# Altium integrated library NSC LDO.IntLib: 1202 symbols (part 25 of 27)
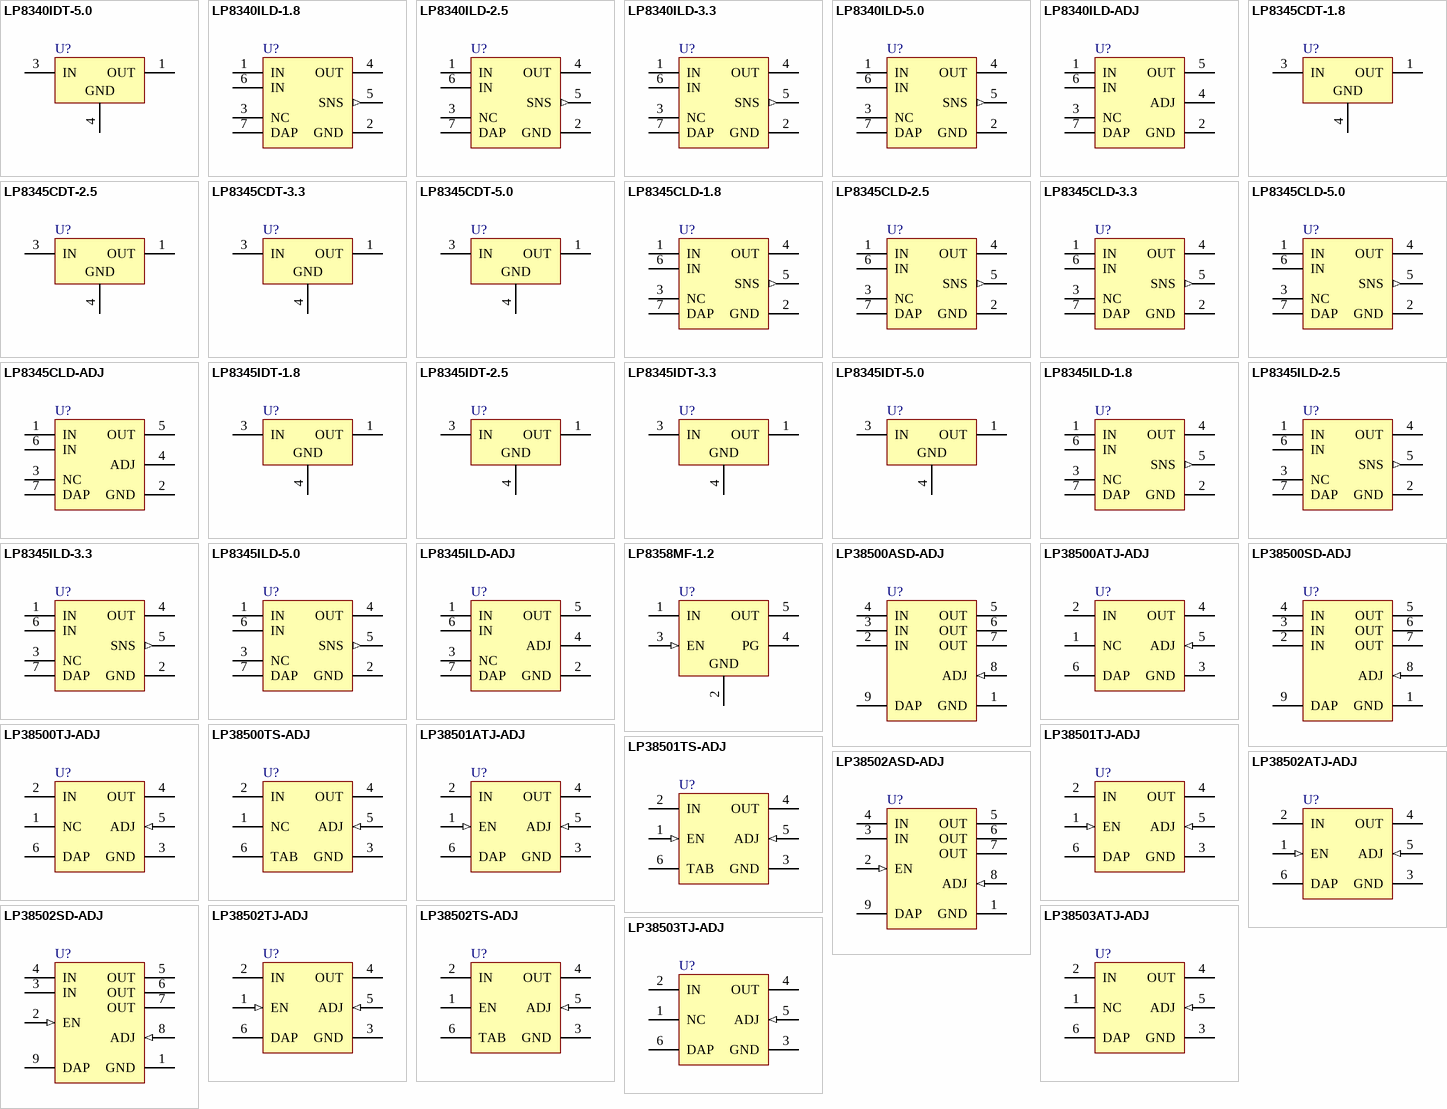
[diagram p54: symbols LP8340IDT-5.0 to LP38503TJ-ADJ]

## LP8340ILD-ADJ
designator U?
Low Dropout, Low IQ, 1.0A CMOS Linear Regulator; PartNumber: LP8340ILD-ADJ; Manufacturer: National Semiconductor; CompType: LDO IC; PackageTopMarking: ZXYTT*L078B; Published: 4-Dec-2008; DatasheetVersion: May-2005; PackageVersion: revA, Jul-2001; PackageReference: LDE06A; Publisher: Altium Limited; PackageDescription: LLP, Plastic, Dual, 2.92 x 3.29 x 0.75mm Body, 6 Lead, 0.95mm Pitch, SOT23 Land; RoHS: Y; PinCount: 6; DigiKeyPartNumber: LP8340ILD-ADJ-ND; ComponentLink1Description: LP8340 Datasheet; ComponentLink1URL: http://www.national.com/ds/LP/LP8340.pdf; ComponentLink2Description: LP8340 Web Page; ComponentLink2URL: http://www.national.com/pf/LP/LP8340.html; ComponentLink3Description: LDE06A Package Page; ComponentLink3URL: http://www.national.com/packaging/folders/lde06a.html
footprint LDE06A (PSON, 6-Leads, Body 2.92x3.29 mm, Pitch 0.95mm, NSC Recommended)
pins: 1 IN (power), 2 GND (power), 3 NC, 4 ADJ, 5 OUT (power), 6 IN (power), 7 DAP (power)

## LP8345CDT-1.8
designator U?
Low Dropout, Low IQ, 500mA CMOS Linear Regulator; PartNumber: LP8345CDT-1.8; Manufacturer: National Semiconductor; CompType: LDO IC; PackageTopMarking: NSUZXYTT*LP8345*CDT-1.8; Published: 4-Dec-2008; DatasheetVersion: May-2005; PackageVersion: revC, Apr-2003; PackageReference: TD03B; Publisher: Altium Limited; PackageDescription: TO252, Molded, Jedec, 6.8 x 6.10 x 2.30mm Body, 3 Lead, 2.28mm Pitch, Surface Mount; RoHS: Y; PinCount: 3; DigiKeyPartNumber: LP8345CDT-1.8-ND; Code_JEDEC: TO-252-AA; ComponentLink1Description: LP8345 Datasheet; ComponentLink1URL: http://www.national.com/ds/LP/LP8345.pdf; ComponentLink2Description: LP8345 Web Page; ComponentLink2URL: http://www.national.com/pf/LP/LP8345.html; ComponentLink3Description: TD03B Package Page; ComponentLink3URL: http://www.national.com/packaging/folders/td03b.html
footprint TD03B_N (D-PAK, 4-Leads, Body 6.1x6.6mm, Pitch 2.29mm, Lead Span 9.7mm, IPC Medium Density)
footprint TD03B_L (D-PAK, 4-Leads, Body 6.1x6.6mm, Pitch 2.29mm, Lead Span 9.7mm, IPC High Density)
footprint TD03B_M (D-PAK, 4-Leads, Body 6.1x6.6mm, Pitch 2.29mm, Lead Span 9.7mm, IPC Low Density)
pins: 1 OUT (power), 3 IN (power), 4 GND (power)

## LP8345CDT-2.5
designator U?
Low Dropout, Low IQ, 500mA CMOS Linear Regulator; PartNumber: LP8345CDT-2.5; Manufacturer: National Semiconductor; CompType: LDO IC; PackageTopMarking: NSUZXYTT*LP8345*CDT-2.5; Published: 4-Dec-2008; DatasheetVersion: May-2005; PackageVersion: revC, Apr-2003; PackageReference: TD03B; Publisher: Altium Limited; PackageDescription: TO252, Molded, Jedec, 6.8 x 6.10 x 2.30mm Body, 3 Lead, 2.28mm Pitch, Surface Mount; RoHS: Y; PinCount: 3; DigiKeyPartNumber: LP8345CDT-2.5-ND; Code_JEDEC: TO-252-AA; ComponentLink1Description: LP8345 Datasheet; ComponentLink1URL: http://www.national.com/ds/LP/LP8345.pdf; ComponentLink2Description: LP8345 Web Page; ComponentLink2URL: http://www.national.com/pf/LP/LP8345.html; ComponentLink3Description: TD03B Package Page; ComponentLink3URL: http://www.national.com/packaging/folders/td03b.html
footprint TD03B_N (D-PAK, 4-Leads, Body 6.1x6.6mm, Pitch 2.29mm, Lead Span 9.7mm, IPC Medium Density)
footprint TD03B_L (D-PAK, 4-Leads, Body 6.1x6.6mm, Pitch 2.29mm, Lead Span 9.7mm, IPC High Density)
footprint TD03B_M (D-PAK, 4-Leads, Body 6.1x6.6mm, Pitch 2.29mm, Lead Span 9.7mm, IPC Low Density)
pins: 1 OUT (power), 3 IN (power), 4 GND (power)

## LP8345CDT-3.3
designator U?
Low Dropout, Low IQ, 500mA CMOS Linear Regulator; PartNumber: LP8345CDT-3.3; Manufacturer: National Semiconductor; CompType: LDO IC; PackageTopMarking: NSUZXYTT*LP8345*CDT-3.3; Published: 4-Dec-2008; DatasheetVersion: May-2005; PackageVersion: revC, Apr-2003; PackageReference: TD03B; Publisher: Altium Limited; PackageDescription: TO252, Molded, Jedec, 6.8 x 6.10 x 2.30mm Body, 3 Lead, 2.28mm Pitch, Surface Mount; RoHS: O; PinCount: 3; DigiKeyPartNumber: LP8345CDT-3.3-ND; Code_JEDEC: TO-252-AA; ComponentLink1Description: LP8345 Datasheet; ComponentLink1URL: http://www.national.com/ds/LP/LP8345.pdf; ComponentLink2Description: LP8345 Web Page; ComponentLink2URL: http://www.national.com/pf/LP/LP8345.html; ComponentLink3Description: TD03B Package Page; ComponentLink3URL: http://www.national.com/packaging/folders/td03b.html
footprint TD03B_N (D-PAK, 4-Leads, Body 6.1x6.6mm, Pitch 2.29mm, Lead Span 9.7mm, IPC Medium Density)
footprint TD03B_L (D-PAK, 4-Leads, Body 6.1x6.6mm, Pitch 2.29mm, Lead Span 9.7mm, IPC High Density)
footprint TD03B_M (D-PAK, 4-Leads, Body 6.1x6.6mm, Pitch 2.29mm, Lead Span 9.7mm, IPC Low Density)
pins: 1 OUT (power), 3 IN (power), 4 GND (power)

## LP8345CDT-5.0
designator U?
Low Dropout, Low IQ, 500mA CMOS Linear Regulator; PartNumber: LP8345CDT-5.0; Manufacturer: National Semiconductor; CompType: LDO IC; PackageTopMarking: NSUZXYTT*LP8345*CDT-5.0; Published: 4-Dec-2008; DatasheetVersion: May-2005; PackageVersion: revC, Apr-2003; PackageReference: TD03B; Publisher: Altium Limited; PackageDescription: TO252, Molded, Jedec, 6.8 x 6.10 x 2.30mm Body, 3 Lead, 2.28mm Pitch, Surface Mount; RoHS: O; PinCount: 3; DigiKeyPartNumber: LP8345CDT-5.0-ND; Code_JEDEC: TO-252-AA; ComponentLink1Description: LP8345 Datasheet; ComponentLink1URL: http://www.national.com/ds/LP/LP8345.pdf; ComponentLink2Description: LP8345 Web Page; ComponentLink2URL: http://www.national.com/pf/LP/LP8345.html; ComponentLink3Description: TD03B Package Page; ComponentLink3URL: http://www.national.com/packaging/folders/td03b.html
footprint TD03B_N (D-PAK, 4-Leads, Body 6.1x6.6mm, Pitch 2.29mm, Lead Span 9.7mm, IPC Medium Density)
footprint TD03B_L (D-PAK, 4-Leads, Body 6.1x6.6mm, Pitch 2.29mm, Lead Span 9.7mm, IPC High Density)
footprint TD03B_M (D-PAK, 4-Leads, Body 6.1x6.6mm, Pitch 2.29mm, Lead Span 9.7mm, IPC Low Density)
pins: 1 OUT (power), 3 IN (power), 4 GND (power)

## LP8345CLD-1.8
designator U?
Low Dropout, Low IQ, 500mA CMOS Linear Regulator; PartNumber: LP8345CLD-1.8; Manufacturer: National Semiconductor; CompType: LDO IC; PackageTopMarking: ZXYTT*L046B; Published: 4-Dec-2008; DatasheetVersion: May-2005; PackageVersion: revA, Jul-2001; PackageReference: LDE06A; Publisher: Altium Limited; PackageDescription: LLP, Plastic, Dual, 2.92 x 3.29 x 0.75mm Body, 6 Lead, 0.95mm Pitch, SOT23 Land; RoHS: Y; PinCount: 6; DigiKeyPartNumber: LP8345CLD-1.8CT-ND; ComponentLink1Description: LP8345 Datasheet; ComponentLink1URL: http://www.national.com/ds/LP/LP8345.pdf; ComponentLink2Description: LP8345 Web Page; ComponentLink2URL: http://www.national.com/pf/LP/LP8345.html; ComponentLink3Description: LDE06A Package Page; ComponentLink3URL: http://www.national.com/packaging/folders/lde06a.html
footprint LDE06A (PSON, 6-Leads, Body 2.92x3.29 mm, Pitch 0.95mm, NSC Recommended)
pins: 1 IN (power), 2 GND (power), 3 NC, 4 OUT (power), 5 SNS (out), 6 IN (power), 7 DAP (power)

## LP8345CLD-2.5
designator U?
Low Dropout, Low IQ, 500mA CMOS Linear Regulator; PartNumber: LP8345CLD-2.5; Manufacturer: National Semiconductor; CompType: LDO IC; PackageTopMarking: ZXYTT*L047B; Published: 4-Dec-2008; DatasheetVersion: May-2005; PackageVersion: revA, Jul-2001; PackageReference: LDE06A; Publisher: Altium Limited; PackageDescription: LLP, Plastic, Dual, 2.92 x 3.29 x 0.75mm Body, 6 Lead, 0.95mm Pitch, SOT23 Land; RoHS: Y; PinCount: 6; DigiKeyPartNumber: LP8345CLD-2.5CT-ND; ComponentLink1Description: LP8345 Datasheet; ComponentLink1URL: http://www.national.com/ds/LP/LP8345.pdf; ComponentLink2Description: LP8345 Web Page; ComponentLink2URL: http://www.national.com/pf/LP/LP8345.html; ComponentLink3Description: LDE06A Package Page; ComponentLink3URL: http://www.national.com/packaging/folders/lde06a.html
footprint LDE06A (PSON, 6-Leads, Body 2.92x3.29 mm, Pitch 0.95mm, NSC Recommended)
pins: 1 IN (power), 2 GND (power), 3 NC, 4 OUT (power), 5 SNS (out), 6 IN (power), 7 DAP (power)

## LP8345CLD-3.3
designator U?
Low Dropout, Low IQ, 500mA CMOS Linear Regulator; PartNumber: LP8345CLD-3.3; Manufacturer: National Semiconductor; CompType: LDO IC; PackageTopMarking: ZXYTT*L048B; Published: 4-Dec-2008; DatasheetVersion: May-2005; PackageVersion: revA, Jul-2001; PackageReference: LDE06A; Publisher: Altium Limited; PackageDescription: LLP, Plastic, Dual, 2.92 x 3.29 x 0.75mm Body, 6 Lead, 0.95mm Pitch, SOT23 Land; RoHS: O; PinCount: 6; DigiKeyPartNumber: LP8345CLD-3.3CT-ND; ComponentLink1Description: LP8345 Datasheet; ComponentLink1URL: http://www.national.com/ds/LP/LP8345.pdf; ComponentLink2Description: LP8345 Web Page; ComponentLink2URL: http://www.national.com/pf/LP/LP8345.html; ComponentLink3Description: LDE06A Package Page; ComponentLink3URL: http://www.national.com/packaging/folders/lde06a.html
footprint LDE06A (PSON, 6-Leads, Body 2.92x3.29 mm, Pitch 0.95mm, NSC Recommended)
pins: 1 IN (power), 2 GND (power), 3 NC, 4 OUT (power), 5 SNS (out), 6 IN (power), 7 DAP (power)

## LP8345CLD-5.0
designator U?
Low Dropout, Low IQ, 500mA CMOS Linear Regulator; PartNumber: LP8345CLD-5.0; Manufacturer: National Semiconductor; CompType: LDO IC; PackageTopMarking: ZXYTT*L049B; Published: 4-Dec-2008; DatasheetVersion: May-2005; PackageVersion: revA, Jul-2001; PackageReference: LDE06A; Publisher: Altium Limited; PackageDescription: LLP, Plastic, Dual, 2.92 x 3.29 x 0.75mm Body, 6 Lead, 0.95mm Pitch, SOT23 Land; RoHS: Y; PinCount: 6; DigiKeyPartNumber: LP8345CLD-5.0CT-ND; ComponentLink1Description: LP8345 Datasheet; ComponentLink1URL: http://www.national.com/ds/LP/LP8345.pdf; ComponentLink2Description: LP8345 Web Page; ComponentLink2URL: http://www.national.com/pf/LP/LP8345.html; ComponentLink3Description: LDE06A Package Page; ComponentLink3URL: http://www.national.com/packaging/folders/lde06a.html
footprint LDE06A (PSON, 6-Leads, Body 2.92x3.29 mm, Pitch 0.95mm, NSC Recommended)
pins: 1 IN (power), 2 GND (power), 3 NC, 4 OUT (power), 5 SNS (out), 6 IN (power), 7 DAP (power)

## LP8345CLD-ADJ
designator U?
Low Dropout, Low IQ, 500mA CMOS Linear Regulator; PartNumber: LP8345CLD-ADJ; Manufacturer: National Semiconductor; CompType: LDO IC; PackageTopMarking: ZXYTT*L045B; Published: 4-Dec-2008; DatasheetVersion: May-2005; PackageVersion: revA, Jul-2001; PackageReference: LDE06A; Publisher: Altium Limited; PackageDescription: LLP, Plastic, Dual, 2.92 x 3.29 x 0.75mm Body, 6 Lead, 0.95mm Pitch, SOT23 Land; RoHS: Y; PinCount: 6; DigiKeyPartNumber: LP8345CLD-ADJCT-ND; ComponentLink1Description: LP8345 Datasheet; ComponentLink1URL: http://www.national.com/ds/LP/LP8345.pdf; ComponentLink2Description: LP8345 Web Page; ComponentLink2URL: http://www.national.com/pf/LP/LP8345.html; ComponentLink3Description: LDE06A Package Page; ComponentLink3URL: http://www.national.com/packaging/folders/lde06a.html
footprint LDE06A (PSON, 6-Leads, Body 2.92x3.29 mm, Pitch 0.95mm, NSC Recommended)
pins: 1 IN (power), 2 GND (power), 3 NC, 4 ADJ, 5 OUT (power), 6 IN (power), 7 DAP (power)

## LP8345IDT-1.8
designator U?
Low Dropout, Low IQ, 500mA CMOS Linear Regulator; PartNumber: LP8345IDT-1.8; Manufacturer: National Semiconductor; CompType: LDO IC; PackageTopMarking: NSUZXYTT*LP8345*IDT-1.8; Published: 4-Dec-2008; DatasheetVersion: May-2005; PackageVersion: revC, Apr-2003; PackageReference: TD03B; Publisher: Altium Limited; PackageDescription: TO252, Molded, Jedec, 6.8 x 6.10 x 2.30mm Body, 3 Lead, 2.28mm Pitch, Surface Mount; RoHS: Y; PinCount: 3; DigiKeyPartNumber: LP8345IDT-1.8-ND; Code_JEDEC: TO-252-AA; ComponentLink1Description: LP8345 Datasheet; ComponentLink1URL: http://www.national.com/ds/LP/LP8345.pdf; ComponentLink2Description: LP8345 Web Page; ComponentLink2URL: http://www.national.com/pf/LP/LP8345.html; ComponentLink3Description: TD03B Package Page; ComponentLink3URL: http://www.national.com/packaging/folders/td03b.html
footprint TD03B_N (D-PAK, 4-Leads, Body 6.1x6.6mm, Pitch 2.29mm, Lead Span 9.7mm, IPC Medium Density)
footprint TD03B_L (D-PAK, 4-Leads, Body 6.1x6.6mm, Pitch 2.29mm, Lead Span 9.7mm, IPC High Density)
footprint TD03B_M (D-PAK, 4-Leads, Body 6.1x6.6mm, Pitch 2.29mm, Lead Span 9.7mm, IPC Low Density)
pins: 1 OUT (power), 3 IN (power), 4 GND (power)

## LP8345IDT-2.5
designator U?
Low Dropout, Low IQ, 500mA CMOS Linear Regulator; PartNumber: LP8345IDT-2.5; Manufacturer: National Semiconductor; CompType: LDO IC; PackageTopMarking: NSUZXYTT*LP8345*IDT-2.5; Published: 4-Dec-2008; DatasheetVersion: May-2005; PackageVersion: revC, Apr-2003; PackageReference: TD03B; Publisher: Altium Limited; PackageDescription: TO252, Molded, Jedec, 6.8 x 6.10 x 2.30mm Body, 3 Lead, 2.28mm Pitch, Surface Mount; RoHS: O; PinCount: 3; DigiKeyPartNumber: LP8345IDT-2.5-ND; Code_JEDEC: TO-252-AA; ComponentLink1Description: LP8345 Datasheet; ComponentLink1URL: http://www.national.com/ds/LP/LP8345.pdf; ComponentLink2Description: LP8345 Web Page; ComponentLink2URL: http://www.national.com/pf/LP/LP8345.html; ComponentLink3Description: TD03B Package Page; ComponentLink3URL: http://www.national.com/packaging/folders/td03b.html
footprint TD03B_N (D-PAK, 4-Leads, Body 6.1x6.6mm, Pitch 2.29mm, Lead Span 9.7mm, IPC Medium Density)
footprint TD03B_L (D-PAK, 4-Leads, Body 6.1x6.6mm, Pitch 2.29mm, Lead Span 9.7mm, IPC High Density)
footprint TD03B_M (D-PAK, 4-Leads, Body 6.1x6.6mm, Pitch 2.29mm, Lead Span 9.7mm, IPC Low Density)
pins: 1 OUT (power), 3 IN (power), 4 GND (power)

## LP8345IDT-3.3
designator U?
Low Dropout, Low IQ, 500mA CMOS Linear Regulator; PartNumber: LP8345IDT-3.3; Manufacturer: National Semiconductor; CompType: LDO IC; PackageTopMarking: NSUZXYTT*LP8345*IDT-3.3; Published: 4-Dec-2008; DatasheetVersion: May-2005; PackageVersion: revC, Apr-2003; PackageReference: TD03B; Publisher: Altium Limited; PackageDescription: TO252, Molded, Jedec, 6.8 x 6.10 x 2.30mm Body, 3 Lead, 2.28mm Pitch, Surface Mount; RoHS: Y; PinCount: 3; DigiKeyPartNumber: LP8345IDT-3.3-ND; Code_JEDEC: TO-252-AA; ComponentLink1Description: LP8345 Datasheet; ComponentLink1URL: http://www.national.com/ds/LP/LP8345.pdf; ComponentLink2Description: LP8345 Web Page; ComponentLink2URL: http://www.national.com/pf/LP/LP8345.html; ComponentLink3Description: TD03B Package Page; ComponentLink3URL: http://www.national.com/packaging/folders/td03b.html
footprint TD03B_N (D-PAK, 4-Leads, Body 6.1x6.6mm, Pitch 2.29mm, Lead Span 9.7mm, IPC Medium Density)
footprint TD03B_L (D-PAK, 4-Leads, Body 6.1x6.6mm, Pitch 2.29mm, Lead Span 9.7mm, IPC High Density)
footprint TD03B_M (D-PAK, 4-Leads, Body 6.1x6.6mm, Pitch 2.29mm, Lead Span 9.7mm, IPC Low Density)
pins: 1 OUT (power), 3 IN (power), 4 GND (power)

## LP8345IDT-5.0
designator U?
Low Dropout, Low IQ, 500mA CMOS Linear Regulator; PartNumber: LP8345IDT-5.0; Manufacturer: National Semiconductor; CompType: LDO IC; PackageTopMarking: NSUZXYTT*LP8345*IDT-5.0; Published: 4-Dec-2008; DatasheetVersion: May-2005; PackageVersion: revC, Apr-2003; PackageReference: TD03B; Publisher: Altium Limited; PackageDescription: TO252, Molded, Jedec, 6.8 x 6.10 x 2.30mm Body, 3 Lead, 2.28mm Pitch, Surface Mount; RoHS: Y; PinCount: 3; DigiKeyPartNumber: LP8345IDT-5.0-ND; Code_JEDEC: TO-252-AA; ComponentLink1Description: LP8345 Datasheet; ComponentLink1URL: http://www.national.com/ds/LP/LP8345.pdf; ComponentLink2Description: LP8345 Web Page; ComponentLink2URL: http://www.national.com/pf/LP/LP8345.html; ComponentLink3Description: TD03B Package Page; ComponentLink3URL: http://www.national.com/packaging/folders/td03b.html
footprint TD03B_N (D-PAK, 4-Leads, Body 6.1x6.6mm, Pitch 2.29mm, Lead Span 9.7mm, IPC Medium Density)
footprint TD03B_L (D-PAK, 4-Leads, Body 6.1x6.6mm, Pitch 2.29mm, Lead Span 9.7mm, IPC High Density)
footprint TD03B_M (D-PAK, 4-Leads, Body 6.1x6.6mm, Pitch 2.29mm, Lead Span 9.7mm, IPC Low Density)
pins: 1 OUT (power), 3 IN (power), 4 GND (power)

## LP8345ILD-1.8
designator U?
Low Dropout, Low IQ, 500mA CMOS Linear Regulator; PartNumber: LP8345ILD-1.8; Manufacturer: National Semiconductor; CompType: LDO IC; PackageTopMarking: ZXYTT*L074B; Published: 4-Dec-2008; DatasheetVersion: May-2005; PackageVersion: revA, Jul-2001; PackageReference: LDE06A; Publisher: Altium Limited; PackageDescription: LLP, Plastic, Dual, 2.92 x 3.29 x 0.75mm Body, 6 Lead, 0.95mm Pitch, SOT23 Land; RoHS: Y; PinCount: 6; DigiKeyPartNumber: LP8345ILD-1.8-ND; ComponentLink1Description: LP8345 Datasheet; ComponentLink1URL: http://www.national.com/ds/LP/LP8345.pdf; ComponentLink2Description: LP8345 Web Page; ComponentLink2URL: http://www.national.com/pf/LP/LP8345.html; ComponentLink3Description: LDE06A Package Page; ComponentLink3URL: http://www.national.com/packaging/folders/lde06a.html
footprint LDE06A (PSON, 6-Leads, Body 2.92x3.29 mm, Pitch 0.95mm, NSC Recommended)
pins: 1 IN (power), 2 GND (power), 3 NC, 4 OUT (power), 5 SNS (out), 6 IN (power), 7 DAP (power)

## LP8345ILD-2.5
designator U?
Low Dropout, Low IQ, 500mA CMOS Linear Regulator; PartNumber: LP8345ILD-2.5; Manufacturer: National Semiconductor; CompType: LDO IC; PackageTopMarking: ZXYTT*L075B; Published: 4-Dec-2008; DatasheetVersion: May-2005; PackageVersion: revA, Jul-2001; PackageReference: LDE06A; Publisher: Altium Limited; PackageDescription: LLP, Plastic, Dual, 2.92 x 3.29 x 0.75mm Body, 6 Lead, 0.95mm Pitch, SOT23 Land; RoHS: Y; PinCount: 6; DigiKeyPartNumber: LP8345ILD-2.5-ND; ComponentLink1Description: LP8345 Datasheet; ComponentLink1URL: http://www.national.com/ds/LP/LP8345.pdf; ComponentLink2Description: LP8345 Web Page; ComponentLink2URL: http://www.national.com/pf/LP/LP8345.html; ComponentLink3Description: LDE06A Package Page; ComponentLink3URL: http://www.national.com/packaging/folders/lde06a.html
footprint LDE06A (PSON, 6-Leads, Body 2.92x3.29 mm, Pitch 0.95mm, NSC Recommended)
pins: 1 IN (power), 2 GND (power), 3 NC, 4 OUT (power), 5 SNS (out), 6 IN (power), 7 DAP (power)

## LP8345ILD-3.3
designator U?
Low Dropout, Low IQ, 500mA CMOS Linear Regulator; PartNumber: LP8345ILD-3.3; Manufacturer: National Semiconductor; CompType: LDO IC; PackageTopMarking: ZXYTT*L076B; Published: 4-Dec-2008; DatasheetVersion: May-2005; PackageVersion: revA, Jul-2001; PackageReference: LDE06A; Publisher: Altium Limited; PackageDescription: LLP, Plastic, Dual, 2.92 x 3.29 x 0.75mm Body, 6 Lead, 0.95mm Pitch, SOT23 Land; RoHS: Y; PinCount: 6; DigiKeyPartNumber: LP8345ILD-3.3-ND; ComponentLink1Description: LP8345 Datasheet; ComponentLink1URL: http://www.national.com/ds/LP/LP8345.pdf; ComponentLink2Description: LP8345 Web Page; ComponentLink2URL: http://www.national.com/pf/LP/LP8345.html; ComponentLink3Description: LDE06A Package Page; ComponentLink3URL: http://www.national.com/packaging/folders/lde06a.html
footprint LDE06A (PSON, 6-Leads, Body 2.92x3.29 mm, Pitch 0.95mm, NSC Recommended)
pins: 1 IN (power), 2 GND (power), 3 NC, 4 OUT (power), 5 SNS (out), 6 IN (power), 7 DAP (power)

## LP8345ILD-5.0
designator U?
Low Dropout, Low IQ, 500mA CMOS Linear Regulator; PartNumber: LP8345ILD-5.0; Manufacturer: National Semiconductor; CompType: LDO IC; PackageTopMarking: ZXYTT*L077B; Published: 4-Dec-2008; DatasheetVersion: May-2005; PackageVersion: revA, Jul-2001; PackageReference: LDE06A; Publisher: Altium Limited; PackageDescription: LLP, Plastic, Dual, 2.92 x 3.29 x 0.75mm Body, 6 Lead, 0.95mm Pitch, SOT23 Land; RoHS: Y; PinCount: 6; DigiKeyPartNumber: LP8345ILD-5.0-ND; ComponentLink1Description: LP8345 Datasheet; ComponentLink1URL: http://www.national.com/ds/LP/LP8345.pdf; ComponentLink2Description: LP8345 Web Page; ComponentLink2URL: http://www.national.com/pf/LP/LP8345.html; ComponentLink3Description: LDE06A Package Page; ComponentLink3URL: http://www.national.com/packaging/folders/lde06a.html
footprint LDE06A (PSON, 6-Leads, Body 2.92x3.29 mm, Pitch 0.95mm, NSC Recommended)
pins: 1 IN (power), 2 GND (power), 3 NC, 4 OUT (power), 5 SNS (out), 6 IN (power), 7 DAP (power)

## LP8345ILD-ADJ
designator U?
Low Dropout, Low IQ, 500mA CMOS Linear Regulator; PartNumber: LP8345ILD-ADJ; Manufacturer: National Semiconductor; CompType: LDO IC; PackageTopMarking: ZXYTT*L073B; Published: 4-Dec-2008; DatasheetVersion: May-2005; PackageVersion: revA, Jul-2001; PackageReference: LDE06A; Publisher: Altium Limited; PackageDescription: LLP, Plastic, Dual, 2.92 x 3.29 x 0.75mm Body, 6 Lead, 0.95mm Pitch, SOT23 Land; RoHS: Y; PinCount: 6; DigiKeyPartNumber: LP8345ILD-ADJ-ND; ComponentLink1Description: LP8345 Datasheet; ComponentLink1URL: http://www.national.com/ds/LP/LP8345.pdf; ComponentLink2Description: LP8345 Web Page; ComponentLink2URL: http://www.national.com/pf/LP/LP8345.html; ComponentLink3Description: LDE06A Package Page; ComponentLink3URL: http://www.national.com/packaging/folders/lde06a.html
footprint LDE06A (PSON, 6-Leads, Body 2.92x3.29 mm, Pitch 0.95mm, NSC Recommended)
pins: 1 IN (power), 2 GND (power), 3 NC, 4 ADJ, 5 OUT (power), 6 IN (power), 7 DAP (power)

## LP8358MF-1.2
designator U?
150mA, uCap, Low Dropout Voltage Regualtor with Power Good; PartNumber: LP8358MF-1.2; Manufacturer: National Semiconductor; CompType: LDO IC; PackageTopMarking: LH2B*XTT; Published: 4-Dec-2008; DatasheetVersion: Feb-2003; PackageVersion: revD, Aug-2008; PackageReference: MF05A; Publisher: Altium Limited; PackageDescription: Molded SOT-23, .115 x .063 x .040 in Body, 5 Lead, .0375 in Pitch; RoHS: O; PinCount: 5; DigiKeyPartNumber: LP8358MF-1.2CT-ND; Code_IPC: SOT23-5; ComponentLink1Description: LP8358 Datasheet; ComponentLink1URL: http://www.national.com/ds/LP/LP8358.pdf; ComponentLink2Description: LP8358 Web Page; ComponentLink2URL: http://www.national.com/pf/LP/LP8358.html; ComponentLink3Description: MF05A Package Page; ComponentLink3URL: http://www.national.com/packaging/folders/mf05a.html
footprint MF05A_N (SOT23, 5-Leads, Body 2.9x1.6mm, Pitch 0.95mm, Lead Span 2.8mm, IPC Medium Density)
footprint MF05A_L (SOT23, 5-Leads, Body 2.9x1.6mm, Pitch 0.95mm, Lead Span 2.8mm, IPC High Density)
footprint MF05A_M (SOT23, 5-Leads, Body 2.9x1.6mm, Pitch 0.95mm, Lead Span 2.8mm, IPC Low Density)
pins: 1 IN (power), 2 GND (power), 3 EN (in), 4 PG (oc), 5 OUT (power)

## LP38500ASD-ADJ
designator U?
1.5A FlexCap Low Dropout Linear Regulator for 2.7V to 5.5V Inputs; PartNumber: LP38500ASD-ADJ; Manufacturer: National Semiconductor; CompType: LDO IC; PackageTopMarking: XYTT*LKUA; Published: 4-Dec-2008; DatasheetVersion: May-2008; PackageVersion: revA, Jan-2004; PackageReference: SDA08C; Publisher: Altium Limited; PackageDescription: LLP, Plastic, Dual, 2.5 x 3.0 x 0.8mm Body, 8 Lead, 0.5mm Pitch, No Pullback; RoHS: Y; PinCount: 8; DigiKeyPartNumber: LP38500ASD-ADJCT-ND; ComponentLink1Description: LP38500-ADJ Datasheet; ComponentLink1URL: http://www.national.com/ds/LP/LP38500-ADJ.pdf; ComponentLink2Description: LP38500-ADJ Web Page; ComponentLink2URL: http://www.national.com/pf/LP/LP38500-ADJ.html; ComponentLink3Description: SDA08C Package Page; ComponentLink3URL: http://www.national.com/packaging/folders/sda08c.html
footprint SDA08C (SON, 8-Leads, Body 2.5x3mm, Pitch 0.5mm, NSC Recommended)
pins: 1 GND (power), 2 IN (power), 3 IN (power), 4 IN (power), 5 OUT (power), 6 OUT (power), 7 OUT (power), 8 ADJ (in), 9 DAP (power)

## LP38500ATJ-ADJ
designator U?
1.5A FlexCap Low Dropout Linear Regulator for 2.7V to 5.5V Inputs; PartNumber: LP38500ATJ-ADJ; Manufacturer: National Semiconductor; CompType: LDO IC; PackageTopMarking: NSUZXYTTE#*LP38500*ATJ-ADJ; Published: 4-Dec-2008; DatasheetVersion: May-2008; PackageVersion: revE, Jan-2008; PackageReference: TJ5A; Publisher: Altium Limited; PackageDescription: Thin TO-263, Molded, 9.85 x 10.16 x 2mm Body, 5 Lead, 1.7mm Pitch, Surface Mount; RoHS: Y; PinCount: 5; DigiKeyPartNumber: LP38500ATJ-ADJCT-ND; ComponentLink1Description: LP38500-ADJ Datasheet; ComponentLink1URL: http://www.national.com/ds/LP/LP38500-ADJ.pdf; ComponentLink2Description: LP38500-ADJ Web Page; ComponentLink2URL: http://www.national.com/pf/LP/LP38500-ADJ.html; ComponentLink3Description: TJ5A Package Page; ComponentLink3URL: http://www.national.com/packaging/folders/tj5a.html
footprint TJ5A_N (D2-PAK, 6-Leads, Body 9.9x10.2mm, Pitch 1.7mm, Lead Span 14mm, IPC Medium Density)
footprint TJ5A_L (D2-PAK, 6-Leads, Body 9.9x10.2mm, Pitch 1.7mm, Lead Span 14mm, IPC High Density)
footprint TJ5A_M (D2-PAK, 6-Leads, Body 9.9x10.2mm, Pitch 1.7mm, Lead Span 14mm, IPC Low Density)
pins: 1 NC, 2 IN (power), 3 GND (power), 4 OUT (power), 5 ADJ (in), 6 DAP (power)

## LP38500SD-ADJ
designator U?
1.5A FlexCap Low Dropout Linear Regulator for 2.7V to 5.5V Inputs; PartNumber: LP38500SD-ADJ; Manufacturer: National Semiconductor; CompType: LDO IC; PackageTopMarking: XYTT*LKUB; Published: 4-Dec-2008; DatasheetVersion: May-2008; PackageVersion: revA, Jan-2004; PackageReference: SDA08C; Publisher: Altium Limited; PackageDescription: LLP, Plastic, Dual, 2.5 x 3.0 x 0.8mm Body, 8 Lead, 0.5mm Pitch, No Pullback; RoHS: Y; PinCount: 8; DigiKeyPartNumber: LP38500SD-ADJCT-ND; ComponentLink1Description: LP38500-ADJ Datasheet; ComponentLink1URL: http://www.national.com/ds/LP/LP38500-ADJ.pdf; ComponentLink2Description: LP38500-ADJ Web Page; ComponentLink2URL: http://www.national.com/pf/LP/LP38500-ADJ.html; ComponentLink3Description: SDA08C Package Page; ComponentLink3URL: http://www.national.com/packaging/folders/sda08c.html
footprint SDA08C (SON, 8-Leads, Body 2.5x3mm, Pitch 0.5mm, NSC Recommended)
pins: 1 GND (power), 2 IN (power), 3 IN (power), 4 IN (power), 5 OUT (power), 6 OUT (power), 7 OUT (power), 8 ADJ (in), 9 DAP (power)

## LP38500TJ-ADJ
designator U?
1.5A FlexCap Low Dropout Linear Regulator for 2.7V to 5.5V Inputs; PartNumber: LP38500TJ-ADJ; Manufacturer: National Semiconductor; CompType: LDO IC; PackageTopMarking: NSUZXYTTE#*LP38500*TJ-ADJ; Published: 4-Dec-2008; DatasheetVersion: May-2008; PackageVersion: revE, Jan-2008; PackageReference: TJ5A; Publisher: Altium Limited; PackageDescription: Thin TO-263, Molded, 9.85 x 10.16 x 2mm Body, 5 Lead, 1.7mm Pitch, Surface Mount; RoHS: Y; PinCount: 5; DigiKeyPartNumber: LP38500TJ-ADJ-ND; ComponentLink1Description: LP38500-ADJ Datasheet; ComponentLink1URL: http://www.national.com/ds/LP/LP38500-ADJ.pdf; ComponentLink2Description: LP38500-ADJ Web Page; ComponentLink2URL: http://www.national.com/pf/LP/LP38500-ADJ.html; ComponentLink3Description: TJ5A Package Page; ComponentLink3URL: http://www.national.com/packaging/folders/tj5a.html
footprint TJ5A_N (D2-PAK, 6-Leads, Body 9.9x10.2mm, Pitch 1.7mm, Lead Span 14mm, IPC Medium Density)
footprint TJ5A_L (D2-PAK, 6-Leads, Body 9.9x10.2mm, Pitch 1.7mm, Lead Span 14mm, IPC High Density)
footprint TJ5A_M (D2-PAK, 6-Leads, Body 9.9x10.2mm, Pitch 1.7mm, Lead Span 14mm, IPC Low Density)
pins: 1 NC, 2 IN (power), 3 GND (power), 4 OUT (power), 5 ADJ (in), 6 DAP (power)

## LP38500TS-ADJ
designator U?
1.5A FlexCap Low Dropout Linear Regulator for 2.7V to 5.5V Inputs; PartNumber: LP38500TS-ADJ; Manufacturer: National Semiconductor; CompType: LDO IC; PackageTopMarking: NSUZXYTTE#*LP38500*TS-ADJ; Published: 4-Dec-2008; DatasheetVersion: May-2008; PackageVersion: revD, Apr-2005; PackageReference: TS5B; Publisher: Altium Limited; PackageDescription: TO-263, Molded, .400 x .390 x .180in, 5 Lead, .067in Pitch, Surface Mount; RoHS: Y; PinCount: 5; DigiKeyPartNumber: LP38500TS-ADJ-ND; Code_JEDEC: MO-169-AB; ComponentLink1Description: LP38500-ADJ Datasheet; ComponentLink1URL: http://www.national.com/ds/LP/LP38500-ADJ.pdf; ComponentLink2Description: LP38500-ADJ Web Page; ComponentLink2URL: http://www.national.com/pf/LP/LP38500-ADJ.html; ComponentLink3Description: TS5B Package Page; ComponentLink3URL: http://www.national.com/packaging/folders/ts5b.html
footprint TS5B_N (D2-PAK, 6-Leads, Body 8.6x10.2mm, Pitch 1.7mm, Lead Span 14.1mm, IPC Medium Density)
footprint TS5B_L (D2-PAK, 6-Leads, Body 8.6x10.2mm, Pitch 1.7mm, Lead Span 14.1mm, IPC High Density)
footprint TS5B_M (D2-PAK, 6-Leads, Body 8.6x10.2mm, Pitch 1.7mm, Lead Span 14.1mm, IPC Low Density)
pins: 1 NC, 2 IN (power), 3 GND (power), 4 OUT (power), 5 ADJ (in), 6 TAB (power)

## LP38501ATJ-ADJ
designator U?
3A FlexCap Low Dropout Linear Regulator for 2.7V to 5.5V Inputs; PartNumber: LP38501ATJ-ADJ; Manufacturer: National Semiconductor; CompType: LDO IC; PackageTopMarking: NSUZXYTTE#*LP38501A*TJ-ADJ; Published: 4-Dec-2008; DatasheetVersion: May-2008; PackageVersion: revE, Jan-2008; PackageReference: TJ5A; Publisher: Altium Limited; PackageDescription: Thin TO-263, Molded, 9.85 x 10.16 x 2mm Body, 5 Lead, 1.7mm Pitch, Surface Mount; RoHS: Y; PinCount: 5; DigiKeyPartNumber: LP38501ATJ-ADJCT-ND; ComponentLink1Description: LP38501-ADJ Datasheet; ComponentLink1URL: http://www.national.com/ds/LP/LP38501-ADJ.pdf; ComponentLink2Description: LP38501-ADJ Web Page; ComponentLink2URL: http://www.national.com/pf/LP/LP38501-ADJ.html; ComponentLink3Description: TJ5A Package Page; ComponentLink3URL: http://www.national.com/packaging/folders/tj5a.html
footprint TJ5A_N (D2-PAK, 6-Leads, Body 9.9x10.2mm, Pitch 1.7mm, Lead Span 14mm, IPC Medium Density)
footprint TJ5A_L (D2-PAK, 6-Leads, Body 9.9x10.2mm, Pitch 1.7mm, Lead Span 14mm, IPC High Density)
footprint TJ5A_M (D2-PAK, 6-Leads, Body 9.9x10.2mm, Pitch 1.7mm, Lead Span 14mm, IPC Low Density)
pins: 1 EN (in), 2 IN (power), 3 GND (power), 4 OUT (power), 5 ADJ (in), 6 DAP (power)

## LP38501TJ-ADJ
designator U?
3A FlexCap Low Dropout Linear Regulator for 2.7V to 5.5V Inputs; PartNumber: LP38501TJ-ADJ; Manufacturer: National Semiconductor; CompType: LDO IC; PackageTopMarking: NSUZXYTTE#*LP38501*TJ-ADJ; Published: 4-Dec-2008; DatasheetVersion: May-2008; PackageVersion: revE, Jan-2008; PackageReference: TJ5A; Publisher: Altium Limited; PackageDescription: Thin TO-263, Molded, 9.85 x 10.16 x 2mm Body, 5 Lead, 1.7mm Pitch, Surface Mount; RoHS: Y; PinCount: 5; ComponentLink1Description: LP38501-ADJ Datasheet; ComponentLink1URL: http://www.national.com/ds/LP/LP38501-ADJ.pdf; ComponentLink2Description: LP38501-ADJ Web Page; ComponentLink2URL: http://www.national.com/pf/LP/LP38501-ADJ.html; ComponentLink3Description: TJ5A Package Page; ComponentLink3URL: http://www.national.com/packaging/folders/tj5a.html
footprint TJ5A_N (D2-PAK, 6-Leads, Body 9.9x10.2mm, Pitch 1.7mm, Lead Span 14mm, IPC Medium Density)
footprint TJ5A_L (D2-PAK, 6-Leads, Body 9.9x10.2mm, Pitch 1.7mm, Lead Span 14mm, IPC High Density)
footprint TJ5A_M (D2-PAK, 6-Leads, Body 9.9x10.2mm, Pitch 1.7mm, Lead Span 14mm, IPC Low Density)
pins: 1 EN (in), 2 IN (power), 3 GND (power), 4 OUT (power), 5 ADJ (in), 6 DAP (power)

## LP38501TS-ADJ
designator U?
3A FlexCap Low Dropout Linear Regulator for 2.7V to 5.5V Inputs; PartNumber: LP38501TS-ADJ; Manufacturer: National Semiconductor; CompType: LDO IC; PackageTopMarking: NSUZXYTTE#*LP38501*TS-ADJ; Published: 4-Dec-2008; DatasheetVersion: May-2008; PackageVersion: revD, Apr-2005; PackageReference: TS5B; Publisher: Altium Limited; PackageDescription: TO-263, Molded, .400 x .390 x .180in, 5 Lead, .067in Pitch, Surface Mount; RoHS: Y; PinCount: 5; DigiKeyPartNumber: LP38501TS-ADJ-ND; Code_JEDEC: MO-169-AB; ComponentLink1Description: LP38501-ADJ Datasheet; ComponentLink1URL: http://www.national.com/ds/LP/LP38501-ADJ.pdf; ComponentLink2Description: LP38501-ADJ Web Page; ComponentLink2URL: http://www.national.com/pf/LP/LP38501-ADJ.html; ComponentLink3Description: TS5B Package Page; ComponentLink3URL: http://www.national.com/packaging/folders/ts5b.html
footprint TS5B_N (D2-PAK, 6-Leads, Body 8.6x10.2mm, Pitch 1.7mm, Lead Span 14.1mm, IPC Medium Density)
footprint TS5B_L (D2-PAK, 6-Leads, Body 8.6x10.2mm, Pitch 1.7mm, Lead Span 14.1mm, IPC High Density)
footprint TS5B_M (D2-PAK, 6-Leads, Body 8.6x10.2mm, Pitch 1.7mm, Lead Span 14.1mm, IPC Low Density)
pins: 1 EN (in), 2 IN (power), 3 GND (power), 4 OUT (power), 5 ADJ (in), 6 TAB (power)

## LP38502ASD-ADJ
designator U?
1.5A FlexCap Low Dropout Linear Regulator for 2.7V to 5.5V Inputs; PartNumber: LP38502ASD-ADJ; Manufacturer: National Semiconductor; CompType: LDO IC; PackageTopMarking: XYTT*LKVA; Published: 4-Dec-2008; DatasheetVersion: May-2008; PackageVersion: revA, Jan-2004; PackageReference: SDA08C; Publisher: Altium Limited; PackageDescription: LLP, Plastic, Dual, 2.5 x 3.0 x 0.8mm Body, 8 Lead, 0.5mm Pitch, No Pullback; RoHS: Y; PinCount: 8; DigiKeyPartNumber: LP38502ASD-ADJCT-ND; ComponentLink1Description: LP38502-ADJ Datasheet; ComponentLink1URL: http://www.national.com/ds/LP/LP38502-ADJ.pdf; ComponentLink2Description: LP38502-ADJ Web Page; ComponentLink2URL: http://www.national.com/pf/LP/LP38500-ADJ.html; ComponentLink3Description: SDA08C Package Page; ComponentLink3URL: http://www.national.com/packaging/folders/sda08c.html
footprint SDA08C (SON, 8-Leads, Body 2.5x3mm, Pitch 0.5mm, NSC Recommended)
pins: 1 GND (power), 2 EN (in), 3 IN (power), 4 IN (power), 5 OUT (power), 6 OUT (power), 7 OUT (power), 8 ADJ (in), 9 DAP (power)

## LP38502ATJ-ADJ
designator U?
1.5A FlexCap Low Dropout Linear Regulator for 2.7V to 5.5V Inputs; PartNumber: LP38502ATJ-ADJ; Manufacturer: National Semiconductor; CompType: LDO IC; PackageTopMarking: NSUZXYTTE#*LP38502A*TJ-ADJ; Published: 4-Dec-2008; DatasheetVersion: May-2008; PackageVersion: revE, Jan-2008; PackageReference: TJ5A; Publisher: Altium Limited; PackageDescription: Thin TO-263, Molded, 9.85 x 10.16 x 2mm Body, 5 Lead, 1.7mm Pitch, Surface Mount; RoHS: Y; PinCount: 5; ComponentLink1Description: LP38502-ADJ Datasheet; ComponentLink1URL: http://www.national.com/ds/LP/LP38502-ADJ.pdf; ComponentLink2Description: LP38502-ADJ Web Page; ComponentLink2URL: http://www.national.com/pf/LP/LP38500-ADJ.html; ComponentLink3Description: TJ5A Package Page; ComponentLink3URL: http://www.national.com/packaging/folders/tj5a.html
footprint TJ5A_N (D2-PAK, 6-Leads, Body 9.9x10.2mm, Pitch 1.7mm, Lead Span 14mm, IPC Medium Density)
footprint TJ5A_L (D2-PAK, 6-Leads, Body 9.9x10.2mm, Pitch 1.7mm, Lead Span 14mm, IPC High Density)
footprint TJ5A_M (D2-PAK, 6-Leads, Body 9.9x10.2mm, Pitch 1.7mm, Lead Span 14mm, IPC Low Density)
pins: 1 EN (in), 2 IN (power), 3 GND (power), 4 OUT (power), 5 ADJ (in), 6 DAP (power)

## LP38502SD-ADJ
designator U?
1.5A FlexCap Low Dropout Linear Regulator for 2.7V to 5.5V Inputs; PartNumber: LP38502SD-ADJ; Manufacturer: National Semiconductor; CompType: LDO IC; PackageTopMarking: XYTT*LKVB; Published: 4-Dec-2008; DatasheetVersion: May-2008; PackageVersion: revA, Jan-2004; PackageReference: SDA08C; Publisher: Altium Limited; PackageDescription: LLP, Plastic, Dual, 2.5 x 3.0 x 0.8mm Body, 8 Lead, 0.5mm Pitch, No Pullback; RoHS: Y; PinCount: 8; DigiKeyPartNumber: LP38502SD-ADJCT-ND; ComponentLink1Description: LP38502-ADJ Datasheet; ComponentLink1URL: http://www.national.com/ds/LP/LP38502-ADJ.pdf; ComponentLink2Description: LP38502-ADJ Web Page; ComponentLink2URL: http://www.national.com/pf/LP/LP38500-ADJ.html; ComponentLink3Description: SDA08C Package Page; ComponentLink3URL: http://www.national.com/packaging/folders/sda08c.html
footprint SDA08C (SON, 8-Leads, Body 2.5x3mm, Pitch 0.5mm, NSC Recommended)
pins: 1 GND (power), 2 EN (in), 3 IN (power), 4 IN (power), 5 OUT (power), 6 OUT (power), 7 OUT (power), 8 ADJ (in), 9 DAP (power)

## LP38502TJ-ADJ
designator U?
1.5A FlexCap Low Dropout Linear Regulator for 2.7V to 5.5V Inputs; PartNumber: LP38502TJ-ADJ; Manufacturer: National Semiconductor; CompType: LDO IC; PackageTopMarking: NSUZXYTTE#*LP38502*TJ-ADJ; Published: 4-Dec-2008; DatasheetVersion: May-2008; PackageVersion: revE, Jan-2008; PackageReference: TJ5A; Publisher: Altium Limited; PackageDescription: Thin TO-263, Molded, 9.85 x 10.16 x 2mm Body, 5 Lead, 1.7mm Pitch, Surface Mount; RoHS: Y; PinCount: 5; DigiKeyPartNumber: LP38502TJ-ADJ-ND; ComponentLink1Description: LP38502-ADJ Datasheet; ComponentLink1URL: http://www.national.com/ds/LP/LP38502-ADJ.pdf; ComponentLink2Description: LP38502-ADJ Web Page; ComponentLink2URL: http://www.national.com/pf/LP/LP38500-ADJ.html; ComponentLink3Description: TJ5A Package Page; ComponentLink3URL: http://www.national.com/packaging/folders/tj5a.html
footprint TJ5A_N (D2-PAK, 6-Leads, Body 9.9x10.2mm, Pitch 1.7mm, Lead Span 14mm, IPC Medium Density)
footprint TJ5A_L (D2-PAK, 6-Leads, Body 9.9x10.2mm, Pitch 1.7mm, Lead Span 14mm, IPC High Density)
footprint TJ5A_M (D2-PAK, 6-Leads, Body 9.9x10.2mm, Pitch 1.7mm, Lead Span 14mm, IPC Low Density)
pins: 1 EN (in), 2 IN (power), 3 GND (power), 4 OUT (power), 5 ADJ (in), 6 DAP (power)

## LP38502TS-ADJ
designator U?
1.5A FlexCap Low Dropout Linear Regulator for 2.7V to 5.5V Inputs; PartNumber: LP38502TS-ADJ; Manufacturer: National Semiconductor; CompType: LDO IC; PackageTopMarking: NSUZXYTTE#*LP38502*TS-ADJ; Published: 4-Dec-2008; DatasheetVersion: May-2008; PackageVersion: revD, Apr-2005; PackageReference: TS5B; Publisher: Altium Limited; PackageDescription: TO-263, Molded, .400 x .390 x .180in, 5 Lead, .067in Pitch, Surface Mount; RoHS: Y; PinCount: 5; DigiKeyPartNumber: LP38502TSX-ADJCT-ND; Code_JEDEC: MO-169-AB; ComponentLink1Description: LP38502-ADJ Datasheet; ComponentLink1URL: http://www.national.com/ds/LP/LP38502-ADJ.pdf; ComponentLink2Description: LP38502-ADJ Web Page; ComponentLink2URL: http://www.national.com/pf/LP/LP38500-ADJ.html; ComponentLink3Description: TS5B Package Page; ComponentLink3URL: http://www.national.com/packaging/folders/ts5b.html
footprint TS5B_N (D2-PAK, 6-Leads, Body 8.6x10.2mm, Pitch 1.7mm, Lead Span 14.1mm, IPC Medium Density)
footprint TS5B_L (D2-PAK, 6-Leads, Body 8.6x10.2mm, Pitch 1.7mm, Lead Span 14.1mm, IPC High Density)
footprint TS5B_M (D2-PAK, 6-Leads, Body 8.6x10.2mm, Pitch 1.7mm, Lead Span 14.1mm, IPC Low Density)
pins: 1 EN, 2 IN (power), 3 GND (power), 4 OUT (power), 5 ADJ (in), 6 TAB (power)

## LP38503ATJ-ADJ
designator U?
3A FlexCap Low Dropout Linear Regulator for 2.7V to 5.5V Inputs; PartNumber: LP38503ATJ-ADJ; Manufacturer: National Semiconductor; CompType: LDO IC; PackageTopMarking: NSUZXYTTE#*LP38503A*TJ-ADJ; Published: 4-Dec-2008; DatasheetVersion: May-2008; PackageVersion: revE, Jan-2008; PackageReference: TJ5A; Publisher: Altium Limited; PackageDescription: Thin TO-263, Molded, 9.85 x 10.16 x 2mm Body, 5 Lead, 1.7mm Pitch, Surface Mount; RoHS: Y; PinCount: 5; DigiKeyPartNumber: LP38503ATJ-ADJCT-ND; ComponentLink1Description: LP38503-ADJ Datasheet; ComponentLink1URL: http://www.national.com/ds/LP/LP38503-ADJ.pdf; ComponentLink2Description: LP38503-ADJ Web Page; ComponentLink2URL: http://www.national.com/pf/LP/LP38501-ADJ.html; ComponentLink3Description: TJ5A Package Page; ComponentLink3URL: http://www.national.com/packaging/folders/tj5a.html
footprint TJ5A_N (D2-PAK, 6-Leads, Body 9.9x10.2mm, Pitch 1.7mm, Lead Span 14mm, IPC Medium Density)
footprint TJ5A_L (D2-PAK, 6-Leads, Body 9.9x10.2mm, Pitch 1.7mm, Lead Span 14mm, IPC High Density)
footprint TJ5A_M (D2-PAK, 6-Leads, Body 9.9x10.2mm, Pitch 1.7mm, Lead Span 14mm, IPC Low Density)
pins: 1 NC, 2 IN (power), 3 GND (power), 4 OUT (power), 5 ADJ (in), 6 DAP (power)

## LP38503TJ-ADJ
designator U?
3A FlexCap Low Dropout Linear Regulator for 2.7V to 5.5V Inputs; PartNumber: LP38503TJ-ADJ; Manufacturer: National Semiconductor; CompType: LDO IC; PackageTopMarking: NSUZXYTTE#*LP38503*TJ-ADJ; Published: 4-Dec-2008; DatasheetVersion: May-2008; PackageVersion: revE, Jan-2008; PackageReference: TJ5A; Publisher: Altium Limited; PackageDescription: Thin TO-263, Molded, 9.85 x 10.16 x 2mm Body, 5 Lead, 1.7mm Pitch, Surface Mount; RoHS: Y; PinCount: 5; DigiKeyPartNumber: LP38503TJ-ADJ-ND; ComponentLink1Description: LP38503-ADJ Datasheet; ComponentLink1URL: http://www.national.com/ds/LP/LP38503-ADJ.pdf; ComponentLink2Description: LP38503-ADJ Web Page; ComponentLink2URL: http://www.national.com/pf/LP/LP38501-ADJ.html; ComponentLink3Description: TJ5A Package Page; ComponentLink3URL: http://www.national.com/packaging/folders/tj5a.html
footprint TJ5A_N (D2-PAK, 6-Leads, Body 9.9x10.2mm, Pitch 1.7mm, Lead Span 14mm, IPC Medium Density)
footprint TJ5A_L (D2-PAK, 6-Leads, Body 9.9x10.2mm, Pitch 1.7mm, Lead Span 14mm, IPC High Density)
footprint TJ5A_M (D2-PAK, 6-Leads, Body 9.9x10.2mm, Pitch 1.7mm, Lead Span 14mm, IPC Low Density)
pins: 1 NC, 2 IN (power), 3 GND (power), 4 OUT (power), 5 ADJ (in), 6 DAP (power)

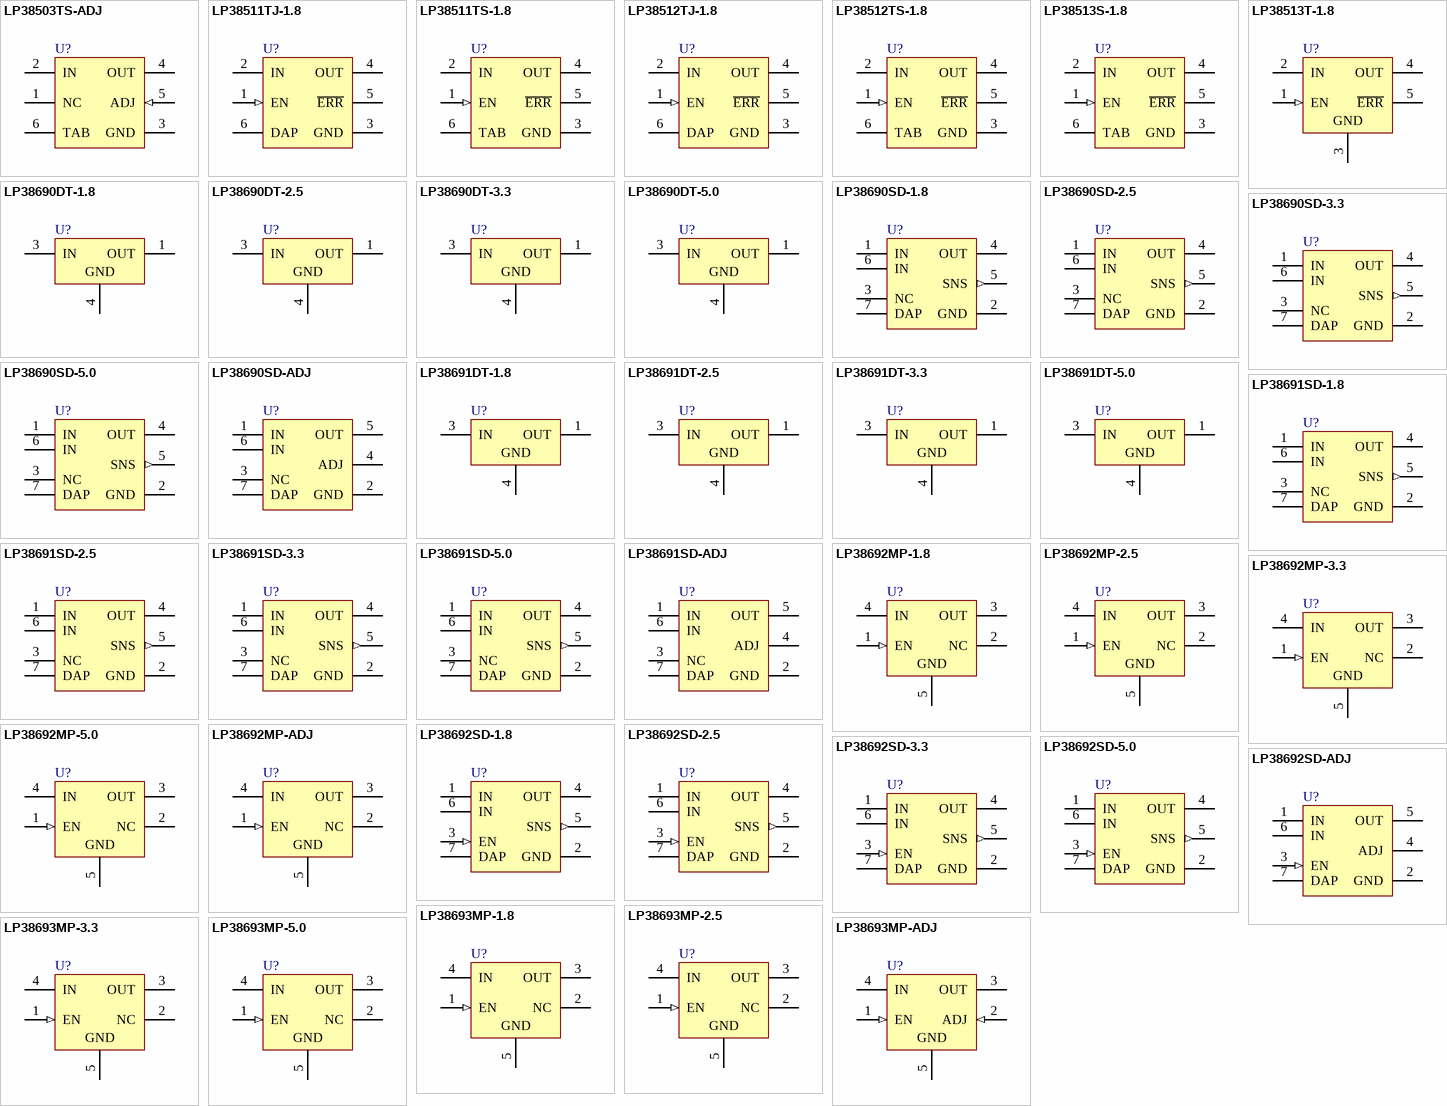
[diagram p28: symbols LP38503TS-ADJ to LP38693MP-ADJ]

## LP38503TS-ADJ
designator U?
3A FlexCap Low Dropout Linear Regulator for 2.7V to 5.5V Inputs; PartNumber: LP38503TS-ADJ; Manufacturer: National Semiconductor; CompType: LDO IC; PackageTopMarking: NSUZXYTTE#*LP38503*TS-ADJ; Published: 4-Dec-2008; DatasheetVersion: May-2008; PackageVersion: revD, Apr-2005; PackageReference: TS5B; Publisher: Altium Limited; PackageDescription: TO-263, Molded, .400 x .390 x .180in, 5 Lead, .067in Pitch, Surface Mount; RoHS: Y; PinCount: 5; DigiKeyPartNumber: LP38503TS-ADJ-ND; Code_JEDEC: MO-169-AB; ComponentLink1Description: LP38503-ADJ Datasheet; ComponentLink1URL: http://www.national.com/ds/LP/LP38503-ADJ.pdf; ComponentLink2Description: LP38503-ADJ Web Page; ComponentLink2URL: http://www.national.com/pf/LP/LP38501-ADJ.html; ComponentLink3Description: TS5B Package Page; ComponentLink3URL: http://www.national.com/packaging/folders/ts5b.html
footprint TS5B_N (D2-PAK, 6-Leads, Body 8.6x10.2mm, Pitch 1.7mm, Lead Span 14.1mm, IPC Medium Density)
footprint TS5B_L (D2-PAK, 6-Leads, Body 8.6x10.2mm, Pitch 1.7mm, Lead Span 14.1mm, IPC High Density)
footprint TS5B_M (D2-PAK, 6-Leads, Body 8.6x10.2mm, Pitch 1.7mm, Lead Span 14.1mm, IPC Low Density)
pins: 1 NC, 2 IN (power), 3 GND (power), 4 OUT (power), 5 ADJ (in), 6 TAB (power)

## LP38511TJ-1.8
designator U?
800 mA Fast-Transient Response Low-Dropout Linear Voltage Regulator with Error Flag; PartNumber: LP38511TJ-1.8; Manufacturer: National Semiconductor; CompType: LDO IC; PackageTopMarking: NSUZXYTTE#*L38511TJ*-1.8; Published: 4-Dec-2008; DatasheetVersion: May-2008; PackageVersion: revE, Jan-2008; PackageReference: TJ5A; Publisher: Altium Limited; PackageDescription: Thin TO-263, Molded, 9.85 x 10.16 x 2mm Body, 5 Lead, 1.7mm Pitch, Surface Mount; RoHS: Y; PinCount: 5; ComponentLink1Description: LP38511 Datasheet; ComponentLink1URL: http://www.national.com/ds/LP/LP38511.pdf; ComponentLink2Description: LP38511 Web Page; ComponentLink2URL: http://www.national.com/pf/LP/LP38511.html; ComponentLink3Description: TJ5A Package Page; ComponentLink3URL: http://www.national.com/packaging/folders/tj5a.html
footprint TJ5A_N (D2-PAK, 6-Leads, Body 9.9x10.2mm, Pitch 1.7mm, Lead Span 14mm, IPC Medium Density)
footprint TJ5A_L (D2-PAK, 6-Leads, Body 9.9x10.2mm, Pitch 1.7mm, Lead Span 14mm, IPC High Density)
footprint TJ5A_M (D2-PAK, 6-Leads, Body 9.9x10.2mm, Pitch 1.7mm, Lead Span 14mm, IPC Low Density)
pins: 1 EN (in), 2 IN (power), 3 GND (power), 4 OUT (power), 5 ~{ERR} (oc), 6 DAP (power)

## LP38511TS-1.8
designator U?
800 mA Fast-Transient Response Low-Dropout Linear Voltage Regulator with Error Flag; PartNumber: LP38511TS-1.8; Manufacturer: National Semiconductor; CompType: LDO IC; PackageTopMarking: NSUZXYTTE#*LP38511*TS-1.8; Published: 4-Dec-2008; DatasheetVersion: May-2008; PackageVersion: revD, Apr-2005; PackageReference: TS5B; Publisher: Altium Limited; PackageDescription: TO-263, Molded, .400 x .390 x .180in, 5 Lead, .067in Pitch, Surface Mount; RoHS: Y; PinCount: 5; DigiKeyPartNumber: LP38511TS-1.8-ND; Code_JEDEC: MO-169-AB; ComponentLink1Description: LP38511 Datasheet; ComponentLink1URL: http://www.national.com/ds/LP/LP38511.pdf; ComponentLink2Description: LP38511 Web Page; ComponentLink2URL: http://www.national.com/pf/LP/LP38511.html; ComponentLink3Description: TS5B Package Page; ComponentLink3URL: http://www.national.com/packaging/folders/ts5b.html
footprint TS5B_N (D2-PAK, 6-Leads, Body 8.6x10.2mm, Pitch 1.7mm, Lead Span 14.1mm, IPC Medium Density)
footprint TS5B_L (D2-PAK, 6-Leads, Body 8.6x10.2mm, Pitch 1.7mm, Lead Span 14.1mm, IPC High Density)
footprint TS5B_M (D2-PAK, 6-Leads, Body 8.6x10.2mm, Pitch 1.7mm, Lead Span 14.1mm, IPC Low Density)
pins: 1 EN (in), 2 IN (power), 3 GND (power), 4 OUT (power), 5 ~{ERR} (oc), 6 TAB (power)

## LP38512TJ-1.8
designator U?
1.5A Fast-Transient Response Low-Dropout Linear Voltage Regulator with Error Flag; PartNumber: LP38512TJ-1.8; Manufacturer: National Semiconductor; CompType: LDO IC; PackageTopMarking: NSUZXYTTE#*L38512TJ*-1.8; Published: 4-Dec-2008; DatasheetVersion: May-2008; PackageVersion: revE, Jan-2008; PackageReference: TJ5A; Publisher: Altium Limited; PackageDescription: Thin TO-263, Molded, 9.85 x 10.16 x 2mm Body, 5 Lead, 1.7mm Pitch, Surface Mount; RoHS: Y; PinCount: 5; ComponentLink1Description: LP38512 Datasheet; ComponentLink1URL: http://www.national.com/ds/LP/LP38512.pdf; ComponentLink2Description: LP38512 Web Page; ComponentLink2URL: http://www.national.com/pf/LP/LP38512.html; ComponentLink3Description: TJ5A Package Page; ComponentLink3URL: http://www.national.com/packaging/folders/tj5a.html
footprint TJ5A_N (D2-PAK, 6-Leads, Body 9.9x10.2mm, Pitch 1.7mm, Lead Span 14mm, IPC Medium Density)
footprint TJ5A_L (D2-PAK, 6-Leads, Body 9.9x10.2mm, Pitch 1.7mm, Lead Span 14mm, IPC High Density)
footprint TJ5A_M (D2-PAK, 6-Leads, Body 9.9x10.2mm, Pitch 1.7mm, Lead Span 14mm, IPC Low Density)
pins: 1 EN (in), 2 IN (power), 3 GND (power), 4 OUT (power), 5 ~{ERR} (oc), 6 DAP (power)

## LP38512TS-1.8
designator U?
1.5A Fast-Transient Response Low-Dropout Linear Voltage Regulator with Error Flag; PartNumber: LP38512TS-1.8; Manufacturer: National Semiconductor; CompType: LDO IC; PackageTopMarking: NSUZXYTTE#*LP38512*TS-1.8; Published: 4-Dec-2008; DatasheetVersion: May-2008; PackageVersion: revD, Apr-2005; PackageReference: TS5B; Publisher: Altium Limited; PackageDescription: TO-263, Molded, .400 x .390 x .180in, 5 Lead, .067in Pitch, Surface Mount; RoHS: Y; PinCount: 5; DigiKeyPartNumber: LP38512TS-1.8-ND; Code_JEDEC: MO-169-AB; ComponentLink1Description: LP38512 Datasheet; ComponentLink1URL: http://www.national.com/ds/LP/LP38512.pdf; ComponentLink2Description: LP38512 Web Page; ComponentLink2URL: http://www.national.com/pf/LP/LP38512.html; ComponentLink3Description: TS5B Package Page; ComponentLink3URL: http://www.national.com/packaging/folders/ts5b.html
footprint TS5B_N (D2-PAK, 6-Leads, Body 8.6x10.2mm, Pitch 1.7mm, Lead Span 14.1mm, IPC Medium Density)
footprint TS5B_L (D2-PAK, 6-Leads, Body 8.6x10.2mm, Pitch 1.7mm, Lead Span 14.1mm, IPC High Density)
footprint TS5B_M (D2-PAK, 6-Leads, Body 8.6x10.2mm, Pitch 1.7mm, Lead Span 14.1mm, IPC Low Density)
pins: 1 EN (in), 2 IN (power), 3 GND (power), 4 OUT (power), 5 ~{ERR} (oc), 6 TAB (power)

## LP38513S-1.8
designator U?
3A Fast Response Ultra Low Dropout Linear Regulator; PartNumber: LP38513S-1.8; Manufacturer: National Semiconductor; CompType: LDO IC; PackageTopMarking: NSUZXYTTE#*LP38513S*-1.8; Published: 4-Dec-2008; DatasheetVersion: Jul-2007; PackageVersion: revD, Apr-2005; PackageReference: TS5B; Publisher: Altium Limited; PackageDescription: TO-263, Molded, .400 x .390 x .180in, 5 Lead, .067in Pitch, Surface Mount; RoHS: Y; PinCount: 5; DigiKeyPartNumber: LP38513S-1.8-ND; Code_JEDEC: MO-169-AB; ComponentLink1Description: LP38513 Datasheet; ComponentLink1URL: http://www.national.com/ds/LP/LP38513.pdf; ComponentLink2Description: LP38513 Web Page; ComponentLink2URL: http://www.national.com/pf/LP/LP38513.html; ComponentLink3Description: TS5B Package Page; ComponentLink3URL: http://www.national.com/packaging/folders/ts5b.html
footprint TS5B_N (D2-PAK, 6-Leads, Body 8.6x10.2mm, Pitch 1.7mm, Lead Span 14.1mm, IPC Medium Density)
footprint TS5B_L (D2-PAK, 6-Leads, Body 8.6x10.2mm, Pitch 1.7mm, Lead Span 14.1mm, IPC High Density)
footprint TS5B_M (D2-PAK, 6-Leads, Body 8.6x10.2mm, Pitch 1.7mm, Lead Span 14.1mm, IPC Low Density)
pins: 1 EN (in), 2 IN (power), 3 GND (power), 4 OUT (power), 5 ~{ERR} (oc), 6 TAB (power)

## LP38513T-1.8
designator U?
3A Fast Response Ultra Low Dropout Linear Regulator; PartNumber: LP38513T-1.8; Manufacturer: National Semiconductor; CompType: LDO IC; PackageTopMarking: NSUZXYTTE#*LP38513T*-1.8; Published: 4-Dec-2008; DatasheetVersion: Jul-2007; PackageVersion: revA, Oct-1989; PackageReference: T05D; Publisher: Altium Limited; PackageDescription: TO-220, Molded, Stagger Bend, 5 Lead; RoHS: Y; PinCount: 5; ComponentLink1Description: LP38513 Datasheet; ComponentLink1URL: http://www.national.com/ds/LP/LP38513.pdf; ComponentLink2Description: LP38513 Web Page; ComponentLink2URL: http://www.national.com/pf/LP/LP38513.html; ComponentLink3Description: T05D Package Page; ComponentLink3URL: http://www.national.com/packaging/folders/t05d.html
footprint T05D (TO, Thru-Hole, Vertical, Heatsink Mounted; 5 Bent Staggered Leads; Pitch 1.7 mm)
pins: 1 EN (in), 2 IN (power), 3 GND (power), 4 OUT (power), 5 ~{ERR} (oc)

## LP38690DT-1.8
designator U?
1A Low Dropout CMOS Linear Regulators; PartNumber: LP38690DT-1.8; Manufacturer: National Semiconductor; CompType: LDO IC; PackageTopMarking: NSUZXYTT*LP38690*DT-1.8; Published: 4-Dec-2008; DatasheetVersion: May-2005; PackageVersion: revC, Apr-2003; PackageReference: TD03B; Publisher: Altium Limited; PackageDescription: TO252, Molded, Jedec, 6.8 x 6.10 x 2.30mm Body, 3 Lead, 2.28mm Pitch, Surface Mount; RoHS: Y; PinCount: 3; DigiKeyPartNumber: LP38690DT-1.8-ND; Code_JEDEC: TO-252-AA; ComponentLink1Description: LP38690 Datasheet; ComponentLink1URL: http://www.national.com/ds/LP/LP38690.pdf; ComponentLink2Description: LP38690 Web Page; ComponentLink2URL: http://www.national.com/pf/LP/LP38690.html; ComponentLink3Description: TD03B Package Page; ComponentLink3URL: http://www.national.com/packaging/folders/td03b.html
footprint TD03B_N (D-PAK, 4-Leads, Body 6.1x6.6mm, Pitch 2.29mm, Lead Span 9.7mm, IPC Medium Density)
footprint TD03B_L (D-PAK, 4-Leads, Body 6.1x6.6mm, Pitch 2.29mm, Lead Span 9.7mm, IPC High Density)
footprint TD03B_M (D-PAK, 4-Leads, Body 6.1x6.6mm, Pitch 2.29mm, Lead Span 9.7mm, IPC Low Density)
pins: 1 OUT (power), 3 IN (power), 4 GND (power)